# Altium footprint library PCB_ConnectorCable.PcbLib: 60 footprints (part 3 of 4)
Each footprint in its own frame and in the unit in brackets; x right, y up, seen from the top. Pads: shape width x height; smd on the part's side, far side on the other; paste and mask are expansions set on the pad; w line width, h text height; cw(c..) or ccw(c..) is an arc to the next point about the centre after c.
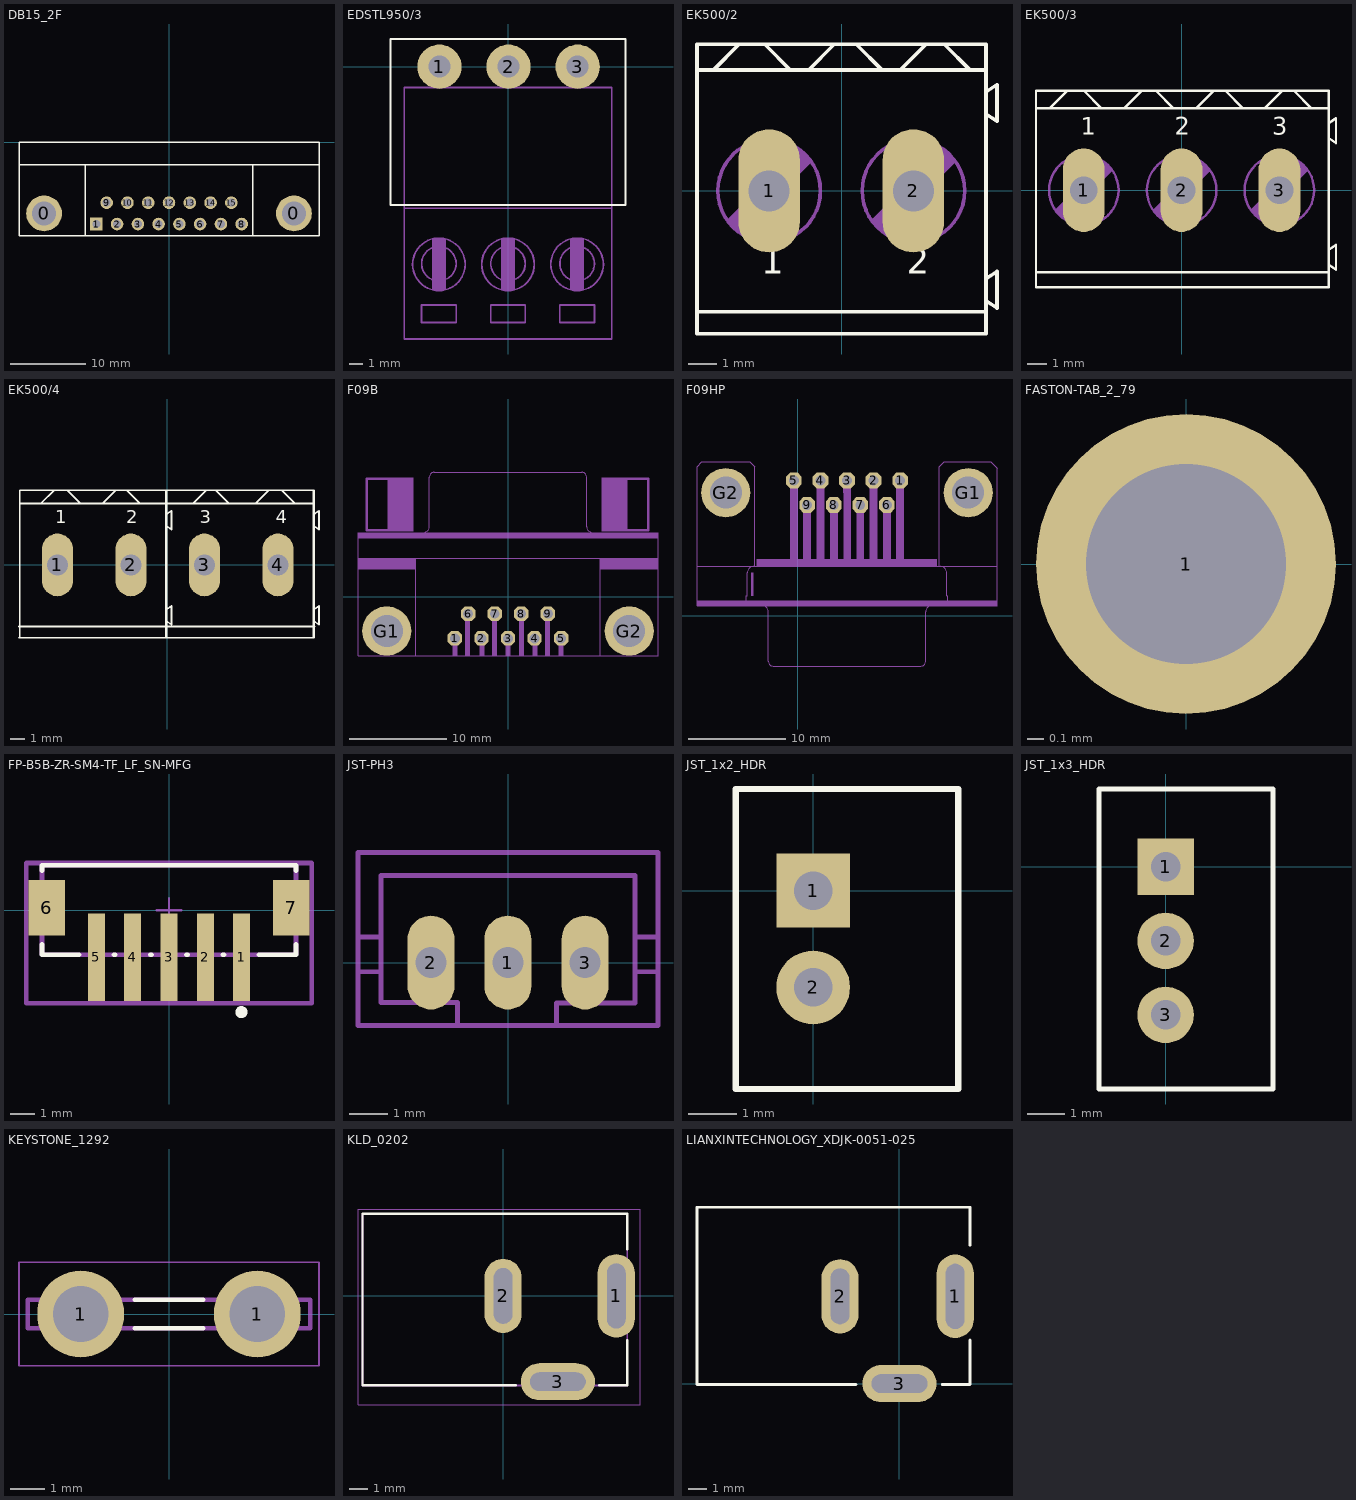
[diagram p2: the footprints below, top view; thin cyan lines are the x and y axes]

## DB15_2F [mil]
height 501.97
pads (17):
  round 188 hole 125: 0(-655.91,-374.02) 0(655.91,-374.02)
  rect 66x66 hole 42: 1(-381.69,-429.92)
  round 66 hole 42: 2(-272.64,-429.92) 3(-163.58,-429.92) 4(-54.53,-429.92) 5(54.53,-429.92) 6(163.58,-429.92) 7(272.64,-429.92) 8(381.69,-429.92) 9(-327.17,-318.11) 10(-218.11,-318.11) 11(-109.05,-318.11) 12(0,-318.11) 13(109.06,-318.11) 14(218.11,-318.11) 15(327.17,-318.11)
Top Overlay:
  lines w7.87: -787.4,-118.11 787.4,-118.11 ; -438.58,-492.13 -438.58,-118.11 ; 438.58,-492.13 438.58,-118.11 ; -787.4,-492.13 -787.4,0 787.4,0 787.4,-492.13 -787.4,-492.13
3D body "SW3DPS-DB15RA_F-DEFAULT.STEP": height 494.09, standoff -137.8, extent -779.92,-500 779.92,224.41

## DB15_3F [mm]
height 12.75
3D body "SW3dPS-SLIM D-SUB RIGHT ANGLE PCB MOUNT.STEP": height 6.25, standoff -7.09, extent 25.113,-52.612 55.913,-39.142
3D body "User Library-17EBH-015P.STEP": height 12.55, standoff -3.6, extent -9.817,-56.225 20.993,-34.01

## EDSTL950/3 [mm]
pads (3):
  round 3.2 hole 1.6: 1(-4.96,0) 2(0.04,0) 3(5.04,0)
Top Overlay:
  lines w0.127: -8.5,-10 8.5,-10 8.5,2 -8.5,2 -8.5,-10
T-Component:
  circle w0.127: c0,-14.3 r1.9
  circle w0.127: c0,-14.25 r1.25
  circle w0.127: c5,-14.3 r1.9
  circle w0.127: c5,-14.25 r1.25
  circle w0.127: c-5,-14.3 r1.9
  circle w0.127: c-5,-14.25 r1.25
  rectangle: -0.5,-16 0.5,-12.5
  rectangle: -0.5,-16.125 0.5,-16
  rectangle: -0.25,-16.25 0.25,-16
  rectangle: -0.375,-12.625 0.375,-12.375
  rectangle: 4.5,-16 5.5,-12.5
  rectangle: 4.5,-16.125 5.5,-16
  rectangle: 4.75,-16.25 5.25,-16
  rectangle: 4.625,-12.625 5.375,-12.375
  rectangle: -5.5,-16 -4.5,-12.5
  rectangle: -5.5,-16.125 -4.5,-16
  rectangle: -5.25,-16.25 -4.75,-16
  rectangle: -5.375,-12.625 -4.625,-12.375
  lines w0.127: -7.5,-10.25 -7.5,-1.5 7.5,-1.5 7.5,-10.25 ; -7.5,-10.25 -7.5,-19.7 7.5,-19.7 7.5,-10.25 ; -7.5,-10.25 7.5,-10.25 ; -6.25,-18.5 -3.75,-18.5 -3.75,-17.25 -6.25,-17.25 -6.25,-18.5 ; -1.25,-18.5 1.25,-18.5 1.25,-17.25 -1.25,-17.25 -1.25,-18.5 ; 3.75,-18.5 6.25,-18.5 6.25,-17.25 3.75,-17.25 3.75,-18.5
3D body "EDSTL950_3.stp": height 8.39, standoff -3.59, extent -8.075,-9.931 8.125,2.069

## EK500/2 [mil]
pads (2):
  oval 84x168 hole 56: 1(-99,0) 2(98,0)
Top Overlay:
  lines w5: 197,-150 212,-160 212,-110 197,-120 ; -197.43,-165 -197.43,-195 197,-195 197,-165 ; -197.43,-165 197,-165 ; -197.43,-165 -197.43,165 ; -197.43,165 -197.43,200 -140,200 ; -197.43,165 -175,165 ; -175,165 -70,165 ; -175,165 -140,200 ; -140,200 -105,200 ; -105,200 -10,200 ; -105,200 -70,165 ; -70,165 -45,165 ; -45,165 55,165 ; -45,165 -10,200 ; -10,200 20,200 ; 20,200 115,200 ; 20,200 55,165 ; 55,165 80,165 ; 80,165 175,165 ; 80,165 115,200 ; 115,200 140,200 ; 140,200 175,165 ; 140,200 197,200 197,165 ; 175,165 197,165 ; 197,-165 197,105 ; 197,105 197,135 ; 197,105 212,95 212,145 197,135 ; 197,135 197,165
  text "1" at -110,-125 h60.45
  text "2" at 89,-125 h60.45
Mechanical 16:
  circle w5: c98,0 r70
  circle w5: c-99,0 r70
  lines w5: -154,-40 -59,55 -44,40 -139,-55 -154,-40 ; 43,-40 138,55 153,40 58,-55 43,-40
  lines w24: -139,-40 -59,40 ; 58,-40 138,40

## EK500/3 [mil]
pads (3):
  oval 84x168 hole 56: 1(-197,0) 2(0,0) 3(197,0)
Top Overlay:
  lines w5: -121,165 -116,165 ; -100,-195 296,-195 296,-165 ; -100,-165 296,-165 ; -73,165 167,165 ; -73,200 202,200 ; 102,-195 -293.28,-195 -293.28,-165 ; 102,-165 -293.28,-165 ; 122,200 89,200 ; 296,-150 311,-160 311,-110 296,-120 ; -293.28,-165 -293.28,165 ; -293.28,165 -293.28,200 -231,200 ; -293.28,165 -266,165 ; -266,165 -161,165 ; -266,165 -231,200 ; -231,200 -196,200 ; -196,200 -81,200 ; -196,200 -161,165 ; -161,165 -116,165 ; -116,165 -16,165 ; -116,165 -81,200 ; -81,200 -76,200 -51,200 ; -51,200 64,200 ; -51,200 -16,165 ; -16,165 29,165 ; 29,165 124,165 89,200 ; 29,165 64,200 ; 64,200 89,200 ; 167,165 262,165 ; 167,165 202,200 ; 202,200 227,200 ; 227,200 262,165 ; 227,200 296,200 296,165 ; 262,165 296,165 ; 296,-165 296,105 ; 296,105 296,135 ; 296,105 311,95 311,145 296,135 ; 296,135 296,165
  text "1" at -203,100 h60.45
  text "2" at -14,100 h60.45
  text "3" at 183,100 h60.45
Mechanical 16:
  circle w5: c0,0 r70
  circle w5: c-197,0 r70
  circle w5: c197,0 r70
  circle w5: c0,0 r70
  lines w5: -252,-40 -157,55 -142,40 -237,-55 -252,-40 ; -55,-40 40,55 55,40 -40,-55 -55,-40 ; 142,-40 237,55 252,40 157,-55 142,-40
  lines w24: -237,-40 -157,40 ; -40,-40 40,40 ; 157,-40 237,40
3D body "User Library-klema-5mm-3pin.STEP": height 551.68, standoff -156.98, extent -292.28,-203 298.28,210.38

## EK500/4 [mil]
pads (4):
  oval 84x168 hole 56: 1(-294,0) 2(-97,0) 3(100,0) 4(297,0)
Top Overlay:
  lines w5: -397,-195 -3,-195 -3,-165 ; -397,-165 -3,-165 ; -197,-195 -1,-195 ; -197,-165 -1,-165 ; -178,165 -73,165 ; -130,165 70,165 ; -130,200 -76,200 ; -90,165 -3,165 ; -75,200 -3,200 ; -70,200 -76,200 ; -55,200 -3,200 ; -35,165 -3,165 ; -33,200 -28,200 ; -3,-150 12,-160 12,-110 -3,-120 ; -2,-195 -1,-195 ; -2,-165 -1,-165 ; 0,165 70,165 ; 5,-195 -1,-195 ; 5,-165 -1,-165 ; 13,200 18,200 ; 25,200 -28,200 ; 27,165 -53,165 ; 37,165 -1,165 ; 77,200 -1,200 -1,165 ; 197,-195 -1,-195 ; 197,-165 -1,-165 ; 197,165 165,165 ; 197,200 130,200 ; 199,165 237,165 ; 199,200 277,200 ; 265,165 392,165 ; 305,200 392,200 ; 325,200 392,200 ; 360,165 392,165 ; 387,165 342,165 ; 392,-150 407,-160 407,-110 392,-120 ; 394,-195 394,200 ; 395,-165 -1,-165 ; -395,-165 -395,165 ; -395,-165 -1,-165 ; -395,-165 -395,-195 -1,-195 ; -395,165 -338,165 ; -395,165 -395,200 -298,200 ; -338,165 -303,200 -298,200 ; -338,165 -233,165 ; -298,200 -268,200 ; -268,200 -233,165 ; -268,200 -133,200 ; -233,165 -173,165 ; -173,165 -138,200 ; -173,165 -53,165 ; -138,200 -108,200 ; -138,200 -133,200 ; -133,200 -28,200 ; -108,200 -73,165 ; -108,200 -28,200 ; -76,200 18,200 ; -73,165 -53,165 ; -3,-165 -3,105 ; -3,105 12,95 12,145 -3,135 ; -3,105 -3,135 ; -3,135 -3,165 ; -3,165 -3,200 ; -1,-195 390,-195 392,-195 392,-165 ; -1,-195 -1,-165 ; -1,-165 392,-165 ; -1,-165 -1,165 ; 18,200 110,200 ; 70,165 105,200 110,200 ; 70,165 165,165 ; 110,200 130,200 ; 130,200 165,165 ; 237,165 272,200 277,200 ; 237,165 342,165 ; 277,200 307,200 342,165 ; 392,-165 392,105 ; 392,105 407,95 407,145 392,135 ; 392,105 392,135 ; 392,135 392,165 ; 392,165 392,200
  text "4" at 291,100 h60.45
  text "3" at 88,100 h60.45
  text "2" at -110,100 h60.45
  text "1" at -300,100 h60.45

## F09B [mil]
pads (11):
  oct 58.09x58.09 hole 40: 1(-216,-170) 2(-108,-170) 3(0,-170) 4(108,-170) 5(216,-170) 6(-162,-70) 7(-54,-70) 8(54,-70) 9(162,-70)
  round 200 hole 130: G1(-493,-140) G2(493,-140)
Mechanical 2:
  circle w5: c493,-140 r65
  circle w5: c-493,-140 r65
  rectangle: 375,110 610,155
  rectangle: -610,110 -375,155
  rectangle: -490,265 -385,485
  rectangle: 380,265 485,485
  rectangle: -175,-240 -155,-45
  rectangle: -65,-240 -45,-45
  rectangle: 45,-240 65,-45
  rectangle: 150,-240 170,-45
  rectangle: 205,-240 225,-150
  rectangle: 100,-240 120,-150
  rectangle: -10,-240 10,-150
  rectangle: -115,-240 -95,-150
  rectangle: -225,-240 -205,-150
  rectangle: -610,240 610,260
  lines w5: -345,260 ccw(c-345,285) -320,285 -320,485 cw(c-300,485) -300,505 300,505 cw(c300,485) 320,485 320,285 ccw(c345,285) 345,260 ; -610,155 -610,-240 -375,-240 ; -610,155 -375,155 ; -610,155 -610,240 ; -610,240 610,240 ; -610,240 -610,260 345,260 ; -375,-240 375,-240 ; -375,-240 -375,155 ; -375,155 375,155 ; 345,260 610,260 610,240 ; 375,-240 610,-240 610,155 ; 375,-240 375,155 ; 375,155 610,155 ; 610,155 610,240
  lines w10: -485,270 -575,270 -575,480 -485,480 ; 480,270 570,270 570,480 480,480

## F09HP [mil]
pads (11):
  oct 63.9x63.9 hole 40: 1(416,550) 2(308,550) 3(200,550) 4(92,550) 5(-16,550) 6(362,450) 7(254,450) 8(146,450) 9(38,450)
  round 200 hole 130: G1(693,500) G2(-293,500)
Mechanical 2:
  circle w5: c-293,500 r65
  circle w5: c693,500 r65
  region: 0,515 -32,515 -32,230 0,230
  region: 54,415 22,415 22,230 54,230
  region: 108,515 76,515 76,230 108,230
  region: 163,415 131,415 131,230 163,230
  region: 217,515 185,515 185,230 217,230
  region: 270,415 238,415 238,230 270,230
  region: 324,515 292,515 292,230 324,230
  region: 378,415 346,415 346,230 378,230
  region: 432,515 400,515 400,230 432,230
  region: 810,60 -410,60 -410,40 810,40
  region: 565,230 -165,230 -165,200 565,200
  region: -180,175 -190,175 -190,80 -180,80
  lines w5: -180,200 ccw(c-180,175) -205,175 -205,80 -210,80 -210,60 ; 580,200 cw(c580,175) 605,175 605,80 610,80 610,60 ; -410,60 -410,200 ; -410,60 -210,60 ; -410,60 -410,40 -145,40 ; -410,200 -175,200 ; -410,200 -410,605 -390,625 -195,625 -175,605 -175,200 ; -210,60 610,60 ; -175,200 -165,200 ; -165,200 -165,230 565,230 565,200 ; -165,200 565,200 ; -145,40 cw(c-145,15) -120,15 -120,-185 ccw(c-100,-185) -100,-205 500,-205 ccw(c500,-185) 520,-185 520,15 cw(c545,15) 545,40 ; -145,40 545,40 ; 545,40 810,40 810,60 ; 565,200 575,200 ; 575,200 575,605 595,625 785,625 810,600 810,200 ; 575,200 810,200 ; 610,60 810,60 ; 810,60 810,200
Mechanical 18:
  lines w32: -16,505 -16,545 ; 38,405 38,445 ; 92,505 92,545 ; 147,405 147,445 ; 200,505 200,545 ; 254,405 254,445 ; 308,505 308,545 ; 362,405 362,445 ; 416,505 416,545

## FASTON-TAB_2_79 [mm]
pads (1):
  round 1.8 hole 1.2: 1(0,0)
3D body "c-62395-1-ae-3d.stp": height 8.39, standoff -3.99, extent -1.981,-0.229 1.981,0.279

## FP-B5B-ZR-SM4-TF_LF_SN-MFG [mm]
pads (7):
  rect 0.7x3.6 smd paste+0 mask+0: 1(3,-1.95) 2(1.5,-1.95) 3(0,-1.95) 4(-1.5,-1.95) 5(-3,-1.95)
  rect 1.5x2.3 smd paste+0 mask+0: 6(-5.05,0.1) 7(5.05,0.1)
Top Overlay:
  circle w0.25: c2.997,-4.216 r0.125
  lines w0.2: -5.25,-1.425 -5.25,-1.85 -3.725,-1.85 ; -5.25,1.625 -5.25,1.85 5.25,1.85 5.25,1.625 ; -2.275,-1.85 -2.225,-1.85 ; -0.775,-1.85 -0.725,-1.85 ; 0.725,-1.85 0.775,-1.85 ; 2.225,-1.85 2.275,-1.85 ; 3.725,-1.85 5.25,-1.85 5.25,-1.425
Mechanical 5:
  lines w0.2: -5.9,-3.85 5.9,-3.85 5.9,1.95 -5.9,1.95 -5.9,-3.85
  text ".Designator" at 0,-0.762 h1
Mechanical 13:
  lines w0.2: -5.25,-1.85 5.25,-1.85 5.25,1.85 -5.25,1.85 -5.25,-1.85
Mechanical 15:
  lines w0.2: -5.9,-3.85 5.9,-3.85 5.9,1.95 -5.9,1.95 -5.9,-3.85
Mechanical 16:
  lines w0.1: -0.5,0 0.5,0 ; 0,-0.5 0,0.5
3D body "Conn_JST_B5B-ZR-SM4-TF_LF_SN_eec.STEP": height 0.25, standoff 0, extent -5.9,-3.85 5.9,1.95

## JST-PH3 [mil]
pads (3):
  oval 48x96 hole 32: 1(-0.14,0.47) 2(-78.82,0.43) 3(78.73,0.45)
Mechanical 2:
  lines w5: -153.48,-8.91 -153.48,26.52 ; -153.48,-8.91 -153.48,-64.03 -51.79,-64.03 ; -153.48,-8.91 -129.86,-8.91 ; -153.48,26.52 -153.48,113.14 153.35,113.14 153.35,112.4 153.37,113.1 153.37,26.48 ; -153.48,26.52 -129.86,26.52 ; -129.86,-8.91 -129.86,26.52 ; -129.86,-8.91 -129.86,-40.41 -51.79,-40.41 -51.79,-64.03 ; -129.86,26.52 -129.86,89.51 129.75,89.47 129.75,26.48 ; -51.79,-64.03 50.23,-64.03 ; 50.23,-64.03 50.23,-62.35 49.68,-63.16 49.68,-40.79 129.65,-40.79 129.65,-39 129.75,-40.45 129.75,-8.95 ; 50.23,-64.07 50.23,-64.03 ; 50.23,-64.07 153.37,-64.07 153.37,-8.95 ; 129.75,-8.95 129.75,26.48 ; 129.75,-8.95 153.37,-8.95 ; 129.75,26.48 153.37,26.48 ; 153.37,-8.95 153.37,26.48

## JST_1x2_HDR [mil]
pads (2):
  rect 60x60 hole 31.5: 1(0,0)
  round 60 hole 31.5: 2(0,-78.74)
Top Overlay:
  lines w5: -62.99,-161.42 118.11,-161.42 118.11,82.68 -62.99,82.68 -62.99,-161.42
3D body "B2B-PH-K-S.STEP": height 236.22, standoff -133.86, extent -63,-155.51 114.17,76.77

## JST_1x3_HDR [mil]
pads (3):
  rect 60x60 hole 31.5: 1(0,0)
  round 60 hole 31.5: 2(0,-78.74) 3(0,-157.48)
Top Overlay:
  lines w5: -70.87,-236.22 114.17,-236.22 114.17,82.68 -70.87,82.68 -70.87,-236.22
3D body "B3B-PH-K-S.STEP": height 236.22, standoff -133.86, extent -66.93,-234.25 110.24,76.77

## KEYSTONE_1292 [mm] "CONN QC TAB 0.250 SOLDER"
pads (2):
  round 2.5 hole 1.6: 1(-2.54,0) 1(2.54,0)
Top Overlay:
  lines w0.127: -0.98,-0.406 0.98,-0.406 ; -0.98,0.406 0.98,0.406
Mechanical 13:
  lines w0.127: -4.065,-0.406 -4.065,0.406 4.065,0.406 4.065,-0.406 -4.065,-0.406
Mechanical 15:
  lines w0.05: -4.315,-1.49 4.315,-1.49 4.315,1.49 -4.315,1.49 -4.315,-1.49
3D body "1292--3DModel-STEP-630548.STEP": height 20.68, standoff -3.2, extent -4.064,-0.432 4.064,0.381

## KLD_0202 [mil]
pads (3):
  oval 80x180 hole 40 slot 140 at 90 deg: 1(244.09,0)
  oval 80x160 hole 40 slot 120 at 90 deg: 2(0,0)
  oval 160x80 hole 40 slot 120 at 0 deg: 3(118.11,-185.04)
Top Overlay:
  lines w5: -303.15,177.15 267.72,177.15 267.72,100 ; -303.15,177.2 -303.15,-192.91 27,-192.91 ; 207,-192.91 267.72,-192.91 267.72,-95
Mechanical 1:
  lines w3.94: -303.15,-192.91 267.72,-192.91 267.72,177.17 -303.15,177.17 -303.15,-192.91 ; -303.15,177.19 -303.15,177.2
Mechanical 15:
  lines w1.97: -312.99,-234.25 295.28,-234.25 295.28,187.01 -312.99,187.01 -312.99,-234.25
3D body "KLDX-0202-B_rD3.STEP": height 425.2, standoff -161.4, extent -303.15,-192.91 267.72,177.17

## LIANXINTECHNOLOGY_XDJK-0051-025 [mm] "CONN PWR JACK 2.1mm x 6.3mm TH R/A"
pads (3):
  oval 2x4.5 hole 1 slot 3.5 at 90 deg: 1(3,4.7)
  oval 2x4 hole 1 slot 3 at 90 deg: 2(-3.2,4.7)
  oval 4x2 hole 1 slot 3 at 0 deg: 3(0,0)
Top Overlay:
  lines w0.15: -2.347,-0.055 -10.9,-0.055 -10.9,9.496 3.8,9.496 3.8,7.45 ; 2.302,-0.055 3.8,-0.055 3.8,-0.029 3.8,2.352
3D body "STEP-694106301002-rev1.stp": height 10.71, standoff -3.79, extent -10.689,-0.055 3.811,9.445